# EAGLE library part HARTING2932 (library Traficon)
Harting TB 09 06 115 2932 DIN41612 type H, 15 pins male plug
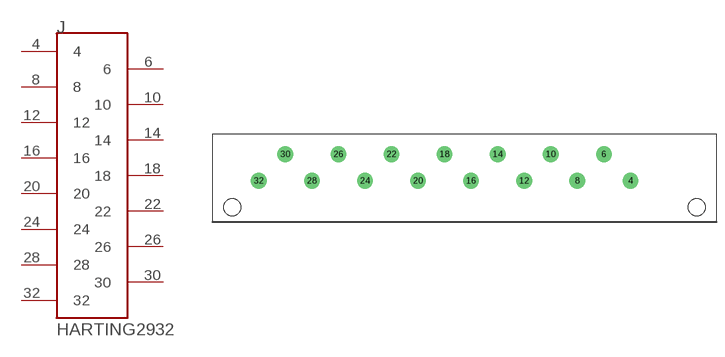
[diagram p53: symbol with the pads of HARTING2932; footprint HARTING2932]

Designator prefix J

## HARTING2932  [HARTING2932]
4  4
6  6
8  8
10  10
12  12
14  14
16  16
18  18
20  20
22  22
24  24
26  26
28  28
30  30
32  32

## Footprint HARTING2932 (pad centres in mm)
drill 2 round: 4 31.75,0; 6 26.67,5.08; 8 21.59,0; 10 16.51,5.08; 12 11.43,0; 14 6.35,5.08; 16 1.27,0; 18 -3.81,5.08; 20 -8.89,0; 22 -13.97,5.08; 24 -19.05,0; 26 -24.13,5.08; 28 -29.21,0; 30 -34.29,5.08; 32 -39.37,0
hole 3.2 at 44.45,-5.08
hole 3.2 at -44.45,-5.08